# EAGLE library part 2-3-TERMS (library custom)
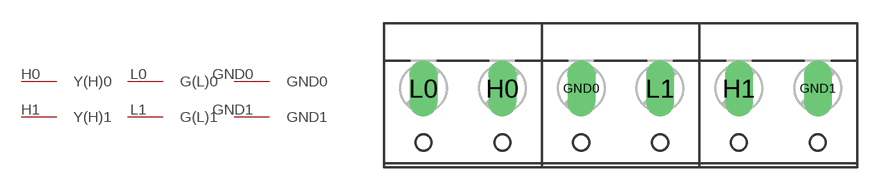
[diagram p0: symbol with the pads of GREEN-2-TERMS; footprint GREEN-2-TERMS]

Designator prefix -

## 2-3-TERMS  [GREEN-2-TERMS]
GND0  GND0
GND1  GND1
H0  Y(H)0
H1  Y(H)1
L0  G(L)0
L1  G(L)1

## Footprint GREEN-2-TERMS (pad centres in mm)
drill 1.194 long: GND0 -2.54,3.175; GND1 12.7,3.175; H0 -7.62,3.175; H1 7.62,3.175; L0 -12.7,3.175; L1 2.54,3.175